# Altium schematic symbol library Capacitors.SchLib: 3 symbols
Pins are listed as number, name and electrical type; pins without a type are passive.

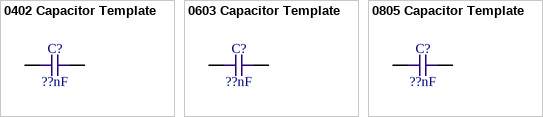
[diagram p0: symbols 0402 Capacitor Template to 0805 Capacitor Template]

## 0402 Capacitor Template
designator C?  value ??nF  (hidden comment: *)
Chip Capacitor, 0402, ??nF, 10V, X7R; EIA Code: X7R; Max. Voltage: 10V
footprint C0402-IPC
pins: 1, 2

## 0603 Capacitor Template
designator C?  value ??nF  (hidden comment: *)
Chip Capacitor, 0603, ??nF, 10V, X7R; EIA Code: X7R; Max. Voltage: 10V
footprint C0603-IPC
pins: 1, 2

## 0805 Capacitor Template
designator C?  value ??nF  (hidden comment: *)
Chip Capacitor, 0805, ??nF, 10V, X7R; EIA Code: X7R; Max. Voltage: 10V
footprint C0805-IPC
pins: 1, 2